# Altium schematic symbol library Switches.SchLib: 2 symbols
Pins are listed as number, name and electrical type; pins without a type are passive.

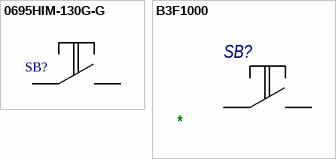
[diagram p0: symbols 0695HIM-130G-G to B3F1000]

## 0695HIM-130G-G
designator SB?  (value not drawn)
Кнопка тактовая 9.5мм; ValueManufacturer: *; ValueManufacturerPartNumber: *; ValueType: *
pins: 1, 2

## B3F1000
designator SB?  (value not drawn)
Кнопка тактовая 6*6мм; ValueManufacturer: *; ValueType: *; ValueManufacturerPartNumber: *
pins: 1, 2